# Altium footprint library HEADER-3PINM-2.54MM.PcbLib: 1 footprints
Each footprint in its own frame and in the unit in brackets; x right, y up, seen from the top. Pads: shape width x height; smd on the part's side, far side on the other; paste and mask are expansions set on the pad; w line width, h text height; cw(c..) or ccw(c..) is an arc to the next point about the centre after c.
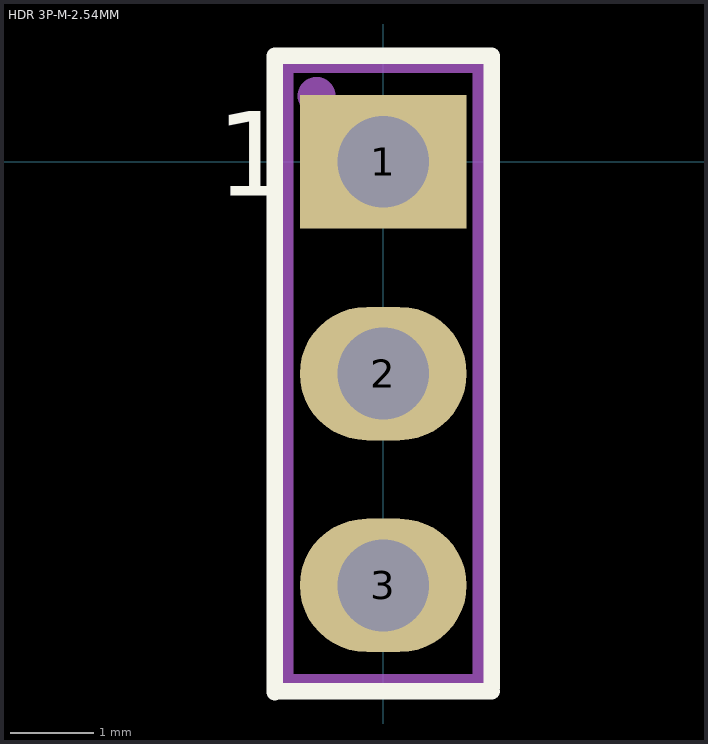
[diagram p0: the footprint, top view; thin cyan lines are the x and y axes]

## HDR 3P-M-2.54MM [mm]
pads (3):
  rect 2x1.6 hole 1.1: 1(0,0)
  oval 2x1.6 hole 1.1: 2(0,-2.54) 3(0,-5.08)
Top Overlay:
  lines w0.2: -1.3,-6.36 -1.3,1.27 1.3,1.27 1.3,-6.3 ; -1.3,-6.35 1.3,-6.35
  text "1" at -2,-0.41 h1.02
Mechanical 29:
  circle w0.254: c-0.8,0.79 r0.1
  lines w0.254: -1.2,-6.27 -1.2,1.19 1.2,1.19 1.2,-6.27 -1.2,-6.27
  text ".Designator" at 0.7,-5.4 h1.52
3D body "77311-y18-03_asm.stp": height 8.4, standoff -3.1, extent -1.2,-6.15 1.21,1.07